# EAGLE library part NRPN08 (library con-sullins-nrpn)
HEADER
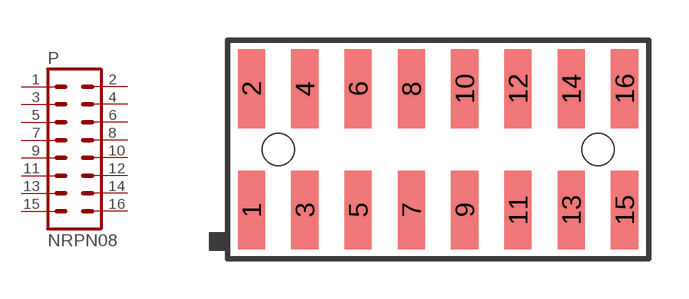
[diagram p5: symbol with the pads of NRPN08; footprint NRPN08]

Designator prefix P

## NRPN08  [NRPN08]
1  1  pas
2  2  pas
3  3  pas
4  4  pas
5  5  pas
6  6  pas
7  7  pas
8  8  pas
9  9  pas
10  10  pas
11  11  pas
12  12  pas
13  13  pas
14  14  pas
15  15  pas
16  16  pas

## Footprint NRPN08 (pad centres in mm)
HEADER
smd 1.02 x 2.95: 1 -7,-2.275; 2 -7,2.275; 3 -5,-2.275; 4 -5,2.275; 5 -3,-2.275; 6 -3,2.275; 7 -1,-2.275; 8 -1,2.275; 9 1,-2.275; 10 1,2.275; 11 3,-2.275; 12 3,2.275; 13 5,-2.275; 14 5,2.275; 15 7,-2.275; 16 7,2.275
hole 1.2 at -6,0
hole 1.2 at 6,0